# Altium footprint library Resonit_PCB_lib.PcbLib: 20 footprints (part 2 of 2)
Each footprint in its own frame and in the unit in brackets; x right, y up, seen from the top. Pads: shape width x height; smd on the part's side, far side on the other; paste and mask are expansions set on the pad; w line width, h text height; cw(c..) or ccw(c..) is an arc to the next point about the centre after c.
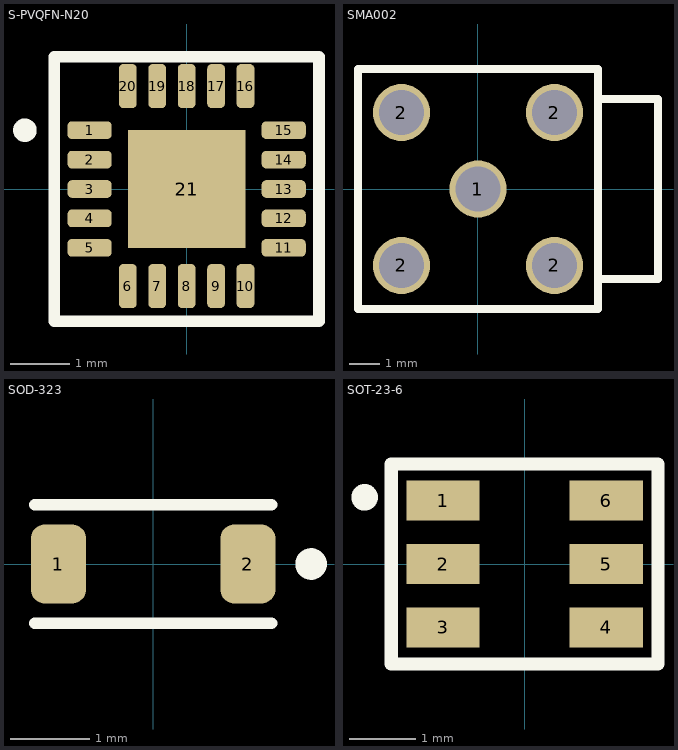
[diagram p1: the footprints below, top view; thin cyan lines are the x and y axes]

## S-PVQFN-N20 [mm]
pads (21):
  rrect50% 0.75x0.3 smd: 1(-1.65,1) 2(-1.65,0.5) 3(-1.65,0) 4(-1.65,-0.5) 5(-1.65,-1) 11(1.65,-1) 12(1.65,-0.5) 13(1.65,0) 14(1.65,0.5) 15(1.65,1)
  rrect50% 0.3x0.75 smd: 6(-1,-1.65) 7(-0.5,-1.65) 8(0,-1.65) 9(0.5,-1.65) 10(1,-1.65) 16(1,1.75) 17(0.5,1.75) 18(0,1.75) 19(-0.5,1.75) 20(-1,1.75)
  rect 2x2 smd: 21(0,0)
Top Overlay:
  circle w0.2: c-2.75,1 r0.1
  lines w0.2: -2.25,-2.25 2.25,-2.25 2.25,2.25 -2.25,2.25 -2.25,-2.25
3D body "User Library-S-PVQFN-N20.step": height 1.05, standoff 0, extent -1.75,-1.75 1.75,1.75

## SMA002 [mm]
pads (5):
  round 1.9 hole 1.5 mask+0.2: 1(0,0) 2(-2.55,-2.55) 2(-2.55,2.55) 2(2.55,-2.55) 2(2.55,2.55)
Top Overlay:
  lines w0.254: 4,-3 6,-3 6,3 4,3 ; -4,-4 4,-4 4,4 -4,4 -4,-4
3D body "User Library-CONSMA002.step": height 10, standoff -3.9, extent -3.5,-3.5 11.652,3.5

## SOD-323 [mm]
pads (2):
  rrect50% 0.7x1 smd: 1(-1.2,0) 2(1.2,0)
Top Overlay:
  circle w0.2: c2,0 r0.1
  lines w0.15: -1.5,-0.75 1.5,-0.75 ; -1.5,0.75 1.5,0.75
3D body "User Library-SOD-323.step": height 1.1, standoff 0, extent -1.3,-0.675 1.3,0.675

## SOT-23-6 [mm]
pads (6):
  rect 1.1x0.6 smd: 1(-1.225,0.95) 2(-1.225,0) 3(-1.225,-0.95) 4(1.225,-0.95) 5(1.225,0) 6(1.225,0.95)
Top Overlay:
  circle w0.2: c-2.4,1 r0.1
  lines w0.2: -2,-1.5 -2,1.5 2,1.5 2,-1.5 -2,-1.5
3D body "User Library-SOT23-6-1.step": height 1.09, standoff 0, extent -1.251,-1.447 1.175,1.347